# Altium footprint library QUTMS_CrystalLibrary.PcbLib: 2 footprints
Each footprint in its own frame and in the unit in brackets; x right, y up, seen from the top. Pads: shape width x height; smd on the part's side, far side on the other; paste and mask are expansions set on the pad; w line width, h text height; cw(c..) or ccw(c..) is an arc to the next point about the centre after c.
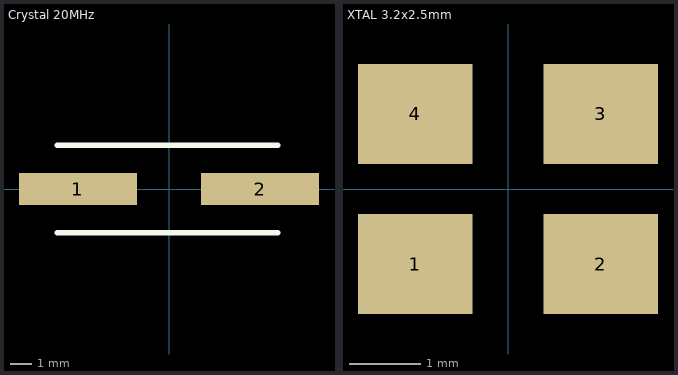
[diagram p0: the footprints below, top view; thin cyan lines are the x and y axes]

## Crystal 20MHz [mm]
height 4.3
pads (2):
  rect 5.5x1.5 smd: 1(-4.25,0) 2(4.25,0)
Top Overlay:
  lines w0.254: -5.207,-2.032 5.08,-2.032 ; -5.207,2.032 5.08,2.032
3D body: height 4.3, standoff 0, extent -5.293,-1.905 5.207,1.905

## XTAL 3.2x2.5mm [mm]
pads (4):
  rect 1.6x1.4 smd: 1(-1.3,-1.05) 2(1.3,-1.05) 3(1.3,1.05) 4(-1.3,1.05)
3D body: height 1, standoff 0, extent -1.6,-1.25 1.6,1.25